# Altium integrated library TI Data Converters Analog to Digital Converter.IntLib: 2197 symbols (part 106 of 168)
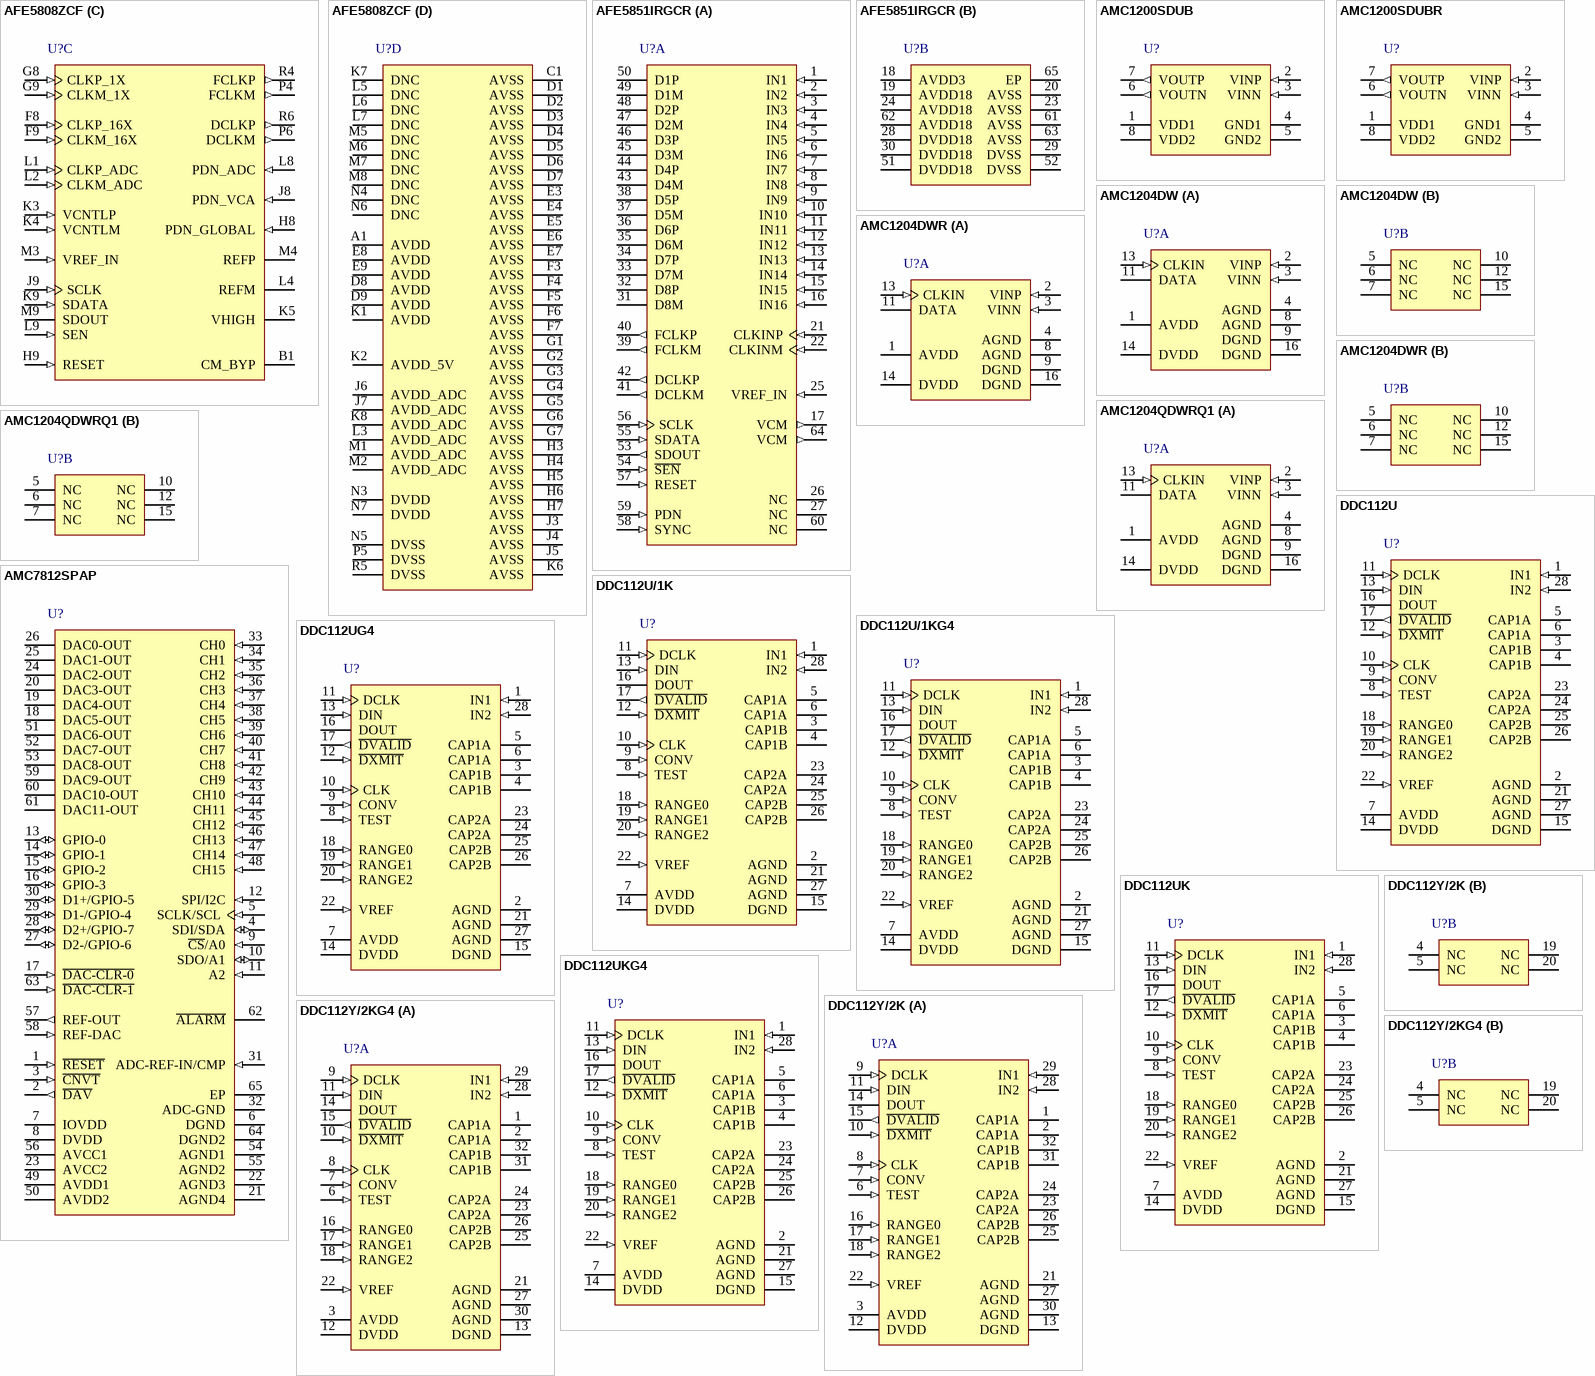
[diagram p231: symbols AFE5808ZCF to DDC112Y/2KG4]

## AMC1204QDWRQ1
designator U?
Automotive Catalog, 1-Bit, 20 MHz, 2nd-Order, Isolated Delta-Sigma Modulator, -40 to 125 degC, 16-pin SOIC (DW16), Green (RoHS & no Sb/Br); Manufacturer: Texas Instruments; PartNumber: AMC1204QDWRQ1; # Input Channels: 1; Analog Voltage AV/DD(Max)(V): 5.5; Analog Voltage AV/DD(Min)(V): 4.5; Architecture: Delta-Sigma, Modulator; Digital Supply(Min)(V): 2.7; INL(Max)(+/-LSB): 16; Interface: Serial; Sample Rate(max)(SPS): 78k; SFDR(dB): 96; SINAD(dB): 87; SNR(dB): 88; SubFamily: Isolated ADC; DatasheetVersion: SLAS886B; PackageVersion: 4040000-2/G, 01/2011; PackageReference: DW16; PackageDescription: 16-Pin Plastic Small Outline, Body 10.30 x 7.50 mm, Pitch 1.27 mm; Supplier 1: Digi-Key; Supplier Part Number 1: ADS800UG4-ND; Supplier 2: Mouser; Supplier Part Number 2: 595-ADS800UG4; Digital Supply(Max)(V): 5.5; Eco-Plan: Green (RoHS & no Sb/Br); Resolution(Bits): 16; Mounting Technology: Surface Mount; Code_JEDEC: MS-013; ComponentLink1Description: Manufacturer URL; ComponentLink1URL: http://www.ti.com/; ComponentLink2Description: Datasheet; ComponentLink2URL: http://www.ti.com/lit/ds/symlink/amc1204-q1.pdf; ComponentLink3Description: Package Specification; ComponentLink3URL: http://www.ti.com/litv/pdf/msoi003g
footprint TI-DW16_N (SOIC, 16-Leads, Body 10.3x7.5mm, Pitch 1.27mm, IPC Medium Density)
footprint TI-DW16_L (SOIC, 16-Leads, Body 10.3x7.5mm, Pitch 1.27mm, IPC High Density)
footprint TI-DW16_M (SOIC, 16-Leads, Body 10.3x7.5mm, Pitch 1.27mm, IPC Low Density)
part A pins: 1 AVDD (power) "High-side power supply", 2 VINP (in) "Noninverting analog input", 3 VINN (in) "Inverting analog input", 4 AGND (power) "High-side ground", 8 AGND (power) "High-side ground", 9 DGND (power) "Controller-side ground", 11 DATA (hiz) "Modulator data output", 13 CLKIN (in) "Modulator clock input", 14 DVDD (power) "Controller-side power supply", 16 DGND (power) "Controller-side ground"
part B pins: 5 NC "No internal connection; can be tied to any potential or left unconnected", 6 NC "No internal connection; can be tied to any potential or left unconnected", 7 NC "No internal connection; can be tied to any potential or left unconnected", 10 NC "No internal connection; can be tied to any potential or left unconnected", 12 NC "No internal connection; can be tied to any potential or left unconnected", 15 NC "No internal connection; can be tied to any potential or left unconnected"

## AMC7812SPAP
designator U?
Integrated, Multichannel ADC and DAC for Analog Monitoring & Control, -40 to 105 degC, 64-pin QFP (PAP64), Green (RoHS & no Sb/Br); Manufacturer: Texas Instruments; PartNumber: AMC7812SPAP; # Input Channels: 16; Analog Voltage AV/DD(Max)(V): 5.5; Analog Voltage AV/DD(Min)(V): 2.7; INL(Max)(+/-LSB): 1; Resolution(Bits): 12; Sample Rate (max)(SPS): 500; SubFamily: Precision ADC (<=10MSPS); DatasheetVersion: SBAS513D; PackageVersion: 4147702/C, 08/2003; PackageReference: PAP64-6495X6495TP; PackageDescription: 64-Pin PowerPAD(TM) Plastic Quad Flatpack, Body 10 x 10 mm, Pitch 0.5 mm; Supplier 1: Digi-Key; Supplier Part Number 1: ADS821U-ND; Supplier 2: Mouser; Supplier Part Number 2: 595-ADS821U; Digital Supply(Max)(V): 5.5; Digital Supply(Min)(V): 2.7; Eco-Plan: Green (RoHS & no Sb/Br); Mounting Technology: Surface Mount; Code_JEDEC: MS-026; ComponentLink1Description: Manufacturer URL; ComponentLink1URL: http://www.ti.com/; ComponentLink2Description: Datasheet; ComponentLink2URL: http://www.ti.com/general/docs/lit/getliterature.tsp?genericPartNumber=AMC7812&fileType=pdf; ComponentLink3Description: Package Specification; ComponentLink3URL: http://www.ti.com/lit/ml/mpqf071b/mpqf071b.pdf
footprint TI-PAP64-6495X6495TP_N (QFP, 64-Leads, Body 10x10mm, Pitch 0.5mm, Thermal Pad 7x7mm, IPC Medium Density)
footprint TI-PAP64-6495X6495TP_L (QFP, 64-Leads, Body 10x10mm, Pitch 0.5mm, Thermal Pad 7x7mm, IPC High Density)
footprint TI-PAP64-6495X6495TP_M (QFP, 64-Leads, Body 10x10mm, Pitch 0.5mm, Thermal Pad 7x7mm, IPC Low Density)
pins: 1 ~{RESET} (in) "Reset input, active low. Logic low on this pin causes the device to perform a hardware reset.", 2 ~{DAV} (out) "Data available indicator, active low output. In direct mode, the D\A\V\ pin goes low (active) when the conversion ends. In auto mode, a 1us pulse (active low) appears on this pin when a conversion cycle finishes (see the (See Datasheet)", 3 ~{CNVT} (in) "External conversion trigger, active low. The falling edge starts the sampling and conversion of the ADC.", 4 SDI/SDA (io) "Serial interface data. SDI for the serial peripheral interface (SPI) when the SPI/I2C pin is high. SDA for I2 C when the SPI/I2C pin is low.", 5 SCLK/SCL (in) "Serial clock input of the main serial interface. SPI clock when the SPI/I2C pin is high; I2C clock when the SPI/I2C pin is low.", 6 DGND (power) "Digital ground", 7 IOVDD (power) "Interface power supply", 8 DVDD (power) "Digital power supply (+3V to +5V). Must be the same value as AVDD.", 9 ~{CS}/A0 (in) "Chip select signal for SPI when the SPI/I2C pin is high. Slave address selection A0 for I2C when the SPI/I2C pin is low.", 10 SDO/A1 (io) "SDO for SPI when the SPI/I2C pin is high. Slave address selection A1 for I2C when the SPI/I2C pin is low.", 11 A2 (in) "Slave address selection A2 for I2C when the SPI/I2C pin is low.", 12 SPI/I2C (in) "Interface selection pin. Digital input. When this pin is tied to IOVDD, the SPI is enabled and the I2C interface is disabled. When this pin is tied to ground, the SPI is disabled and the I2C interface is enabled.", 13 GPIO-0 (io) "General-purpose digital input/output. This pin is a bidirectional open-drain, digital input/output, and requires an external pull-up resistor. See the General Purpose Input/Output Pins section for more details.", 14 GPIO-1 (io) "General-purpose digital input/output. This pin is a bidirectional open-drain, digital input/output, and requires an external pull-up resistor. See the General Purpose Input/Output Pins section for more details.", 15 GPIO-2 (io) "General-purpose digital input/output. This pin is a bidirectional open-drain, digital input/output, and requires an external pull-up resistor. See the General Purpose Input/Output Pins section for more details.", 16 GPIO-3 (io) "General-purpose digital input/output. This pin is a bidirectional open-drain, digital input/output, and requires an external pull-up resistor. See the General Purpose Input/Output Pins section for more details.", 17 ~{DAC-CLR-0} (in) "DAC clear control signal, digital input, active low. When low, all DACs associated with the DAC-CLR-0 pin enter a clear state, the DAC Latch is loaded with predefined code, and the output is set to the corresponding level. (See Datasheet)", 18 DAC5-OUT (hiz) "Output of DAC channels 5", 19 DAC4-OUT (hiz) "Output of DAC channels 4", 20 DAC3-OUT (hiz) "Output of DAC channels 3", 21 AGND4 (power) "Analog ground", 22 AGND3 (power) "Analog ground", 23 AVCC2 (power) "Positive analog power for DAC0-OUT, DAC1-OUT, DAC2-OUT, DAC3-OUT, DAC4-OUT, DAC5-OUT, must be tied to AVCC1", 24 DAC2-OUT (hiz) "Output of DAC channels 2", 25 DAC1-OUT (hiz) "Output of DAC channels 1", 26 DAC0-OUT (hiz) "Output of DAC channels 0", 27 D2-/GPIO-6 (io) "Remote sensor D2 negative input when D2 enabled; GPIO-6 when D2 disabled. Pull-up required for output.", 28 D2+/GPIO-7 (io) "Remote sensor D2 positive input when D2 enabled; GPIO-7 when D2 disabled. Pull-up required for output.", 29 D1-/GPIO-4 (io) "Remote sensor D1 negative input when D1 enabled; GPIO-6 when D1 disabled. Pull-up required for output.", 30 D1+/GPIO-5 (io) "Remote sensor D1 positive input when D1 enabled; GPIO-7 when D1 disabled. Pull-up required for output.", 31 ADC-REF-IN/CMP (in) "External ADC reference input when external VREF is used to drive ADC. Compensation capacitor connection (connect 4.7uF capacitor between this pin and AGND) when Internal VREF is used to drive ADC.", 32 ADC-GND (power) "ADC ground. Must be connected to AGND.", 33 CH0 (in) "Analog inputs of channel 0 to 15. CH4 to CH15 are single-ended. CH0, CH1, CH2, and CH3 can be programmed as differential or single-ended.", 34 CH1 (in) "Analog inputs of channel 0 to 15. CH4 to CH15 are single-ended. CH0, CH1, CH2, and CH3 can be programmed as differential or single-ended.", 35 CH2 (in) "Analog inputs of channel 0 to 15. CH4 to CH15 are single-ended. CH0, CH1, CH2, and CH3 can be programmed as differential or single-ended.", 36 CH3 (in) "Analog inputs of channel 0 to 15. CH4 to CH15 are single-ended. CH0, CH1, CH2, and CH3 can be programmed as differential or single-ended.", 37 CH4 (in) "Analog inputs of channel 0 to 15. CH4 to CH15 are single-ended. CH0, CH1, CH2, and CH3 can be programmed as differential or single-ended.", 38 CH5 (in) "Analog inputs of channel 0 to 15. CH4 to CH15 are single-ended. CH0, CH1, CH2, and CH3 can be programmed as differential or single-ended.", 39 CH6 (in) "Analog inputs of channel 0 to 15. CH4 to CH15 are single-ended. CH0, CH1, CH2, and CH3 can be programmed as differential or single-ended.", 40 CH7 (in) "Analog inputs of channel 0 to 15. CH4 to CH15 are single-ended. CH0, CH1, CH2, and CH3 can be programmed as differential or single-ended.", 41 CH8 (in) "Analog inputs of channel 0 to 15. CH4 to CH15 are single-ended. CH0, CH1, CH2, and CH3 can be programmed as differential or single-ended.", 42 CH9 (in) "Analog inputs of channel 0 to 15. CH4 to CH15 are single-ended. CH0, CH1, CH2, and CH3 can be programmed as differential or single-ended.", 43 CH10 (in) "Analog inputs of channel 0 to 15. CH4 to CH15 are single-ended. CH0, CH1, CH2, and CH3 can be programmed as differential or single-ended.", 44 CH11 (in) "Analog inputs of channel 0 to 15. CH4 to CH15 are single-ended. CH0, CH1, CH2, and CH3 can be programmed as differential or single-ended.", 45 CH12 (in) "Analog inputs of channel 0 to 15. CH4 to CH15 are single-ended. CH0, CH1, CH2, and CH3 can be programmed as differential or single-ended.", 46 CH13 (in) "Analog inputs of channel 0 to 15. CH4 to CH15 are single-ended. CH0, CH1, CH2, and CH3 can be programmed as differential or single-ended.", 47 CH14 (in) "Analog inputs of channel 0 to 15. CH4 to CH15 are single-ended. CH0, CH1, CH2, and CH3 can be programmed as differential or single-ended.", 48 CH15 (in) "Analog inputs of channel 0 to 15. CH4 to CH15 are single-ended. CH0, CH1, CH2, and CH3 can be programmed as differential or single-ended.", 49 AVDD1 (power) "Positive analog power supply", 50 AVDD2 (power) "Positive analog power supply", 51 DAC6-OUT (hiz) "Output of DAC channels 6", 52 DAC7-OUT (hiz) "Output of DAC channels 7", 53 DAC8-OUT (hiz) "Output of DAC channels 8", 54 AGND1 (power) "Analog ground", 55 AGND2 (power) "Analog ground", 56 AVCC1 (power) "Positive analog power for DAC6-OUT, DAC7-OUT, DAC8-OUT, DAC9-OUT, DAC10-OUT, DAC11-OUT, must be tied to AVCC2", 57 REF-OUT (out) "Internal reference output", 58 REF-DAC (in) "DAC reference Input", 59 DAC9-OUT (hiz) "Output of DAC channels 9", 60 DAC10-OUT (hiz) "Output of DAC channels 10", 61 DAC11-OUT (hiz) "Output of DAC channels 11", 62 ~{ALARM} (hiz) "Global alarm. Open drain output. External 10kohm pull-up resistor required. This pin goes low (active) when one (or more) of the analog channels are out of range.", 63 ~{DAC-CLR-1} (in) "DAC clear control signal, digital input, active low. When low, all DACs associated with the DAC-CLR-1 pin enter a clear state, the DAC Latch is loaded with predefined code, and the output is set to the corresponding level. (See Datasheet)", 64 DGND2 (power) "Digital ground", 65 EP

## DDC112U
designator U?
Dual Current Input 20-Bit ADC, -40 to 85 degC, 28-pin SOIC (DW28), Green (RoHS & no Sb/Br); Manufacturer: Texas Instruments; PartNumber: DDC112U; # Input Channels: 2; Analog Voltage AV/DD(Max)(V): 5.25; Analog Voltage AV/DD(Min)(V): 4.75; Architecture: Delta-Sigma; Resolution(Bits): 20; Sample Rate (max)(SPS): 3k; SubFamily: Current Input ADC; DatasheetVersion: SBAS085B; PackageVersion: 4040000-6/G, 01/2011; PackageReference: DW28; PackageDescription: 28-Pin Plastic Small Outline, Body 17.90 x 7.50 mm, Pitch 1.27 mm; Supplier 1: Digi-Key; Supplier Part Number 1: ADS821UG4-ND; Supplier 2: Mouser; Supplier Part Number 2: 595-ADS821UG4; Digital Supply(Max)(V): 5.25; Digital Supply(Min)(V): 4.75; Eco-Plan: Green (RoHS & no Sb/Br); Mounting Technology: Surface Mount; Code_JEDEC: MS-013; ComponentLink1Description: Manufacturer URL; ComponentLink1URL: http://www.ti.com/; ComponentLink2Description: Datasheet; ComponentLink2URL: http://www.ti.com/general/docs/lit/getliterature.tsp?genericPartNumber=DDC112&fileType=pdf; ComponentLink3Description: Package Specification; ComponentLink3URL: http://www.ti.com/lit/ml/mpds175a/mpds175a.pdf
footprint TI-DW28_N (SOIC, 28-Leads, Body 17.9x7.5mm, Pitch 1.27mm, IPC Medium Density)
footprint TI-DW28_L (SOIC, 28-Leads, Body 17.9x7.5mm, Pitch 1.27mm, IPC High Density)
footprint TI-DW28_M (SOIC, 28-Leads, Body 17.9x7.5mm, Pitch 1.27mm, IPC Low Density)
pins: 1 IN1 (in) "Input 1: analog input for Integrators 1A and 1B. The integrator that is active is set by the CONV input.", 2 AGND (power) "Analog Ground", 3 CAP1B "External Capacitor for Integrator 1B", 4 CAP1B "External Capacitor for Integrator 1B", 5 CAP1A "External Capacitor for Integrator 1A", 6 CAP1A "External Capacitor for Integrator 1A", 7 AVDD (power) "Analog Supply, +5V Nominal", 8 TEST (in) "Test Control Input. When HIGH, a test charge is applied to the A or B integrators on the next CONV transition.", 9 CONV (in) "Controls which side of the integrator is connected to input. In continuous mode; CONV HIGH → side A is integrating, CONV LOW → side B is integrating. CONV must be synchronized with CLK (see Figure 2).", 10 CLK (in) "System Clock Input, 10MHz Nominal", 11 DCLK (in) "Serial Data Clock Input. This input operates the serial I/ O shift register.", 12 ~{DXMIT} (in) "Serial Data Transmit Enable Input. When LOW, this input enables the internal serial shift register.", 13 DIN (in) "Serial Digital Input. Used to cascade multiple DDC112s.", 14 DVDD (power) "Digital Supply, +5V Nominal", 15 DGND (power) "Digital Ground", 16 DOUT (hiz) "Serial Data Output, Hi-Z when D\X\M\I\T\ is HIGH", 17 ~{DVALID} (out) "Data Valid Output. A LOW value indicates valid data is available in the serial I/O register.", 18 RANGE0 (in) "Range Control Input 0 (least significant bit)", 19 RANGE1 (in) "Range Control Input 1", 20 RANGE2 (in) "Range Control Input 2 (most significant bit)", 21 AGND (power) "Analog Ground", 22 VREF (in) "External Reference Input, +4.096V Nominal", 23 CAP2A "External Capacitor for Integrator 2A", 24 CAP2A "External Capacitor for Integrator 2A", 25 CAP2B "External Capacitor for Integrator 2B", 26 CAP2B "External Capacitor for Integrator 2B", 27 AGND (power) "Analog Ground", 28 IN2 (in) "Input 2: analog input for Integrators 2A and 2B. The integrator that is active is set by the CONV input."

## DDC112U/1K
designator U?
Dual Current Input 20-Bit ADC, -40 to 85 degC, 28-pin SOIC (DW28), Green (RoHS & no Sb/Br); Manufacturer: Texas Instruments; PartNumber: DDC112U/1K; # Input Channels: 2; Analog Voltage AV/DD(Max)(V): 5.25; Analog Voltage AV/DD(Min)(V): 4.75; Architecture: Delta-Sigma; Resolution(Bits): 20; Sample Rate (max)(SPS): 3k; SubFamily: Current Input ADC; DatasheetVersion: SBAS085B; PackageVersion: 4040000-6/G, 01/2011; PackageReference: DW28; PackageDescription: 28-Pin Plastic Small Outline, Body 17.90 x 7.50 mm, Pitch 1.27 mm; Supplier 1: Digi-Key; Supplier Part Number 1: ADS801U-ND; Supplier 2: Newark; Supplier Part Number 2: 35C1570; Supplier 3: Mouser; Supplier Part Number 3: 595-ADS801U; Digital Supply(Max)(V): 5.25; Digital Supply(Min)(V): 4.75; Eco-Plan: Green (RoHS & no Sb/Br); Mounting Technology: Surface Mount; Code_JEDEC: MS-013; ComponentLink1Description: Manufacturer URL; ComponentLink1URL: http://www.ti.com/; ComponentLink2Description: Datasheet; ComponentLink2URL: http://www.ti.com/general/docs/lit/getliterature.tsp?genericPartNumber=DDC112&fileType=pdf; ComponentLink3Description: Package Specification; ComponentLink3URL: http://www.ti.com/lit/ml/mpds175a/mpds175a.pdf
footprint TI-DW28_N (SOIC, 28-Leads, Body 17.9x7.5mm, Pitch 1.27mm, IPC Medium Density)
footprint TI-DW28_L (SOIC, 28-Leads, Body 17.9x7.5mm, Pitch 1.27mm, IPC High Density)
footprint TI-DW28_M (SOIC, 28-Leads, Body 17.9x7.5mm, Pitch 1.27mm, IPC Low Density)
pins: 1 IN1 (in) "Input 1: analog input for Integrators 1A and 1B. The integrator that is active is set by the CONV input.", 2 AGND (power) "Analog Ground", 3 CAP1B "External Capacitor for Integrator 1B", 4 CAP1B "External Capacitor for Integrator 1B", 5 CAP1A "External Capacitor for Integrator 1A", 6 CAP1A "External Capacitor for Integrator 1A", 7 AVDD (power) "Analog Supply, +5V Nominal", 8 TEST (in) "Test Control Input. When HIGH, a test charge is applied to the A or B integrators on the next CONV transition.", 9 CONV (in) "Controls which side of the integrator is connected to input. In continuous mode; CONV HIGH → side A is integrating, CONV LOW → side B is integrating. CONV must be synchronized with CLK (see Figure 2).", 10 CLK (in) "System Clock Input, 10MHz Nominal", 11 DCLK (in) "Serial Data Clock Input. This input operates the serial I/ O shift register.", 12 ~{DXMIT} (in) "Serial Data Transmit Enable Input. When LOW, this input enables the internal serial shift register.", 13 DIN (in) "Serial Digital Input. Used to cascade multiple DDC112s.", 14 DVDD (power) "Digital Supply, +5V Nominal", 15 DGND (power) "Digital Ground", 16 DOUT (hiz) "Serial Data Output, Hi-Z when D\X\M\I\T\ is HIGH", 17 ~{DVALID} (out) "Data Valid Output. A LOW value indicates valid data is available in the serial I/O register.", 18 RANGE0 (in) "Range Control Input 0 (least significant bit)", 19 RANGE1 (in) "Range Control Input 1", 20 RANGE2 (in) "Range Control Input 2 (most significant bit)", 21 AGND (power) "Analog Ground", 22 VREF (in) "External Reference Input, +4.096V Nominal", 23 CAP2A "External Capacitor for Integrator 2A", 24 CAP2A "External Capacitor for Integrator 2A", 25 CAP2B "External Capacitor for Integrator 2B", 26 CAP2B "External Capacitor for Integrator 2B", 27 AGND (power) "Analog Ground", 28 IN2 (in) "Input 2: analog input for Integrators 2A and 2B. The integrator that is active is set by the CONV input."

## DDC112U/1KG4
designator U?
Dual Current Input 20-Bit ADC, -40 to 85 degC, 28-pin SOIC (DW28), Green (RoHS & no Sb/Br); Manufacturer: Texas Instruments; PartNumber: DDC112U/1KG4; # Input Channels: 2; Analog Voltage AV/DD(Max)(V): 5.25; Analog Voltage AV/DD(Min)(V): 4.75; Architecture: Delta-Sigma; Resolution(Bits): 20; Sample Rate (max)(SPS): 3k; SubFamily: Current Input ADC; DatasheetVersion: SBAS085B; PackageVersion: 4040000-6/G, 01/2011; PackageReference: DW28; PackageDescription: 28-Pin Plastic Small Outline, Body 17.90 x 7.50 mm, Pitch 1.27 mm; Supplier 1: Digi-Key; Supplier Part Number 1: ADS801UG4-ND; Supplier 2: Farnell; Supplier Part Number 2: 1234977; Supplier 3: Mouser; Supplier Part Number 3: 595-ADS801UG4; Digital Supply(Max)(V): 5.25; Digital Supply(Min)(V): 4.75; Eco-Plan: Green (RoHS & no Sb/Br); Mounting Technology: Surface Mount; Code_JEDEC: MS-013; ComponentLink1Description: Manufacturer URL; ComponentLink1URL: http://www.ti.com/; ComponentLink2Description: Datasheet; ComponentLink2URL: http://www.ti.com/general/docs/lit/getliterature.tsp?genericPartNumber=DDC112&fileType=pdf; ComponentLink3Description: Package Specification; ComponentLink3URL: http://www.ti.com/lit/ml/mpds175a/mpds175a.pdf
footprint TI-DW28_N (SOIC, 28-Leads, Body 17.9x7.5mm, Pitch 1.27mm, IPC Medium Density)
footprint TI-DW28_L (SOIC, 28-Leads, Body 17.9x7.5mm, Pitch 1.27mm, IPC High Density)
footprint TI-DW28_M (SOIC, 28-Leads, Body 17.9x7.5mm, Pitch 1.27mm, IPC Low Density)
pins: 1 IN1 (in) "Input 1: analog input for Integrators 1A and 1B. The integrator that is active is set by the CONV input.", 2 AGND (power) "Analog Ground", 3 CAP1B "External Capacitor for Integrator 1B", 4 CAP1B "External Capacitor for Integrator 1B", 5 CAP1A "External Capacitor for Integrator 1A", 6 CAP1A "External Capacitor for Integrator 1A", 7 AVDD (power) "Analog Supply, +5V Nominal", 8 TEST (in) "Test Control Input. When HIGH, a test charge is applied to the A or B integrators on the next CONV transition.", 9 CONV (in) "Controls which side of the integrator is connected to input. In continuous mode; CONV HIGH → side A is integrating, CONV LOW → side B is integrating. CONV must be synchronized with CLK (see Figure 2).", 10 CLK (in) "System Clock Input, 10MHz Nominal", 11 DCLK (in) "Serial Data Clock Input. This input operates the serial I/ O shift register.", 12 ~{DXMIT} (in) "Serial Data Transmit Enable Input. When LOW, this input enables the internal serial shift register.", 13 DIN (in) "Serial Digital Input. Used to cascade multiple DDC112s.", 14 DVDD (power) "Digital Supply, +5V Nominal", 15 DGND (power) "Digital Ground", 16 DOUT (hiz) "Serial Data Output, Hi-Z when D\X\M\I\T\ is HIGH", 17 ~{DVALID} (out) "Data Valid Output. A LOW value indicates valid data is available in the serial I/O register.", 18 RANGE0 (in) "Range Control Input 0 (least significant bit)", 19 RANGE1 (in) "Range Control Input 1", 20 RANGE2 (in) "Range Control Input 2 (most significant bit)", 21 AGND (power) "Analog Ground", 22 VREF (in) "External Reference Input, +4.096V Nominal", 23 CAP2A "External Capacitor for Integrator 2A", 24 CAP2A "External Capacitor for Integrator 2A", 25 CAP2B "External Capacitor for Integrator 2B", 26 CAP2B "External Capacitor for Integrator 2B", 27 AGND (power) "Analog Ground", 28 IN2 (in) "Input 2: analog input for Integrators 2A and 2B. The integrator that is active is set by the CONV input."

## DDC112UG4
designator U?
Dual Current Input 20-Bit ADC, -40 to 85 degC, 28-pin SOIC (DW28), Green (RoHS & no Sb/Br); Manufacturer: Texas Instruments; PartNumber: DDC112UG4; # Input Channels: 2; Analog Voltage AV/DD(Max)(V): 5.25; Analog Voltage AV/DD(Min)(V): 4.75; Architecture: Delta-Sigma; Resolution(Bits): 20; Sample Rate (max)(SPS): 3k; SubFamily: Current Input ADC; DatasheetVersion: SBAS085B; PackageVersion: 4040000-6/G, 01/2011; PackageReference: DW28; PackageDescription: 28-Pin Plastic Small Outline, Body 17.90 x 7.50 mm, Pitch 1.27 mm; Supplier 1: Digi-Key; Supplier Part Number 1: ADS820U-ND; Supplier 2: Newark; Supplier Part Number 2: 74C7210; Supplier 3: Mouser; Supplier Part Number 3: 595-ADS820U; Digital Supply(Max)(V): 5.25; Digital Supply(Min)(V): 4.75; Eco-Plan: Green (RoHS & no Sb/Br); Mounting Technology: Surface Mount; Code_JEDEC: MS-013; ComponentLink1Description: Manufacturer URL; ComponentLink1URL: http://www.ti.com/; ComponentLink2Description: Datasheet; ComponentLink2URL: http://www.ti.com/general/docs/lit/getliterature.tsp?genericPartNumber=DDC112&fileType=pdf; ComponentLink3Description: Package Specification; ComponentLink3URL: http://www.ti.com/lit/ml/mpds175a/mpds175a.pdf
footprint TI-DW28_N (SOIC, 28-Leads, Body 17.9x7.5mm, Pitch 1.27mm, IPC Medium Density)
footprint TI-DW28_L (SOIC, 28-Leads, Body 17.9x7.5mm, Pitch 1.27mm, IPC High Density)
footprint TI-DW28_M (SOIC, 28-Leads, Body 17.9x7.5mm, Pitch 1.27mm, IPC Low Density)
pins: 1 IN1 (in) "Input 1: analog input for Integrators 1A and 1B. The integrator that is active is set by the CONV input.", 2 AGND (power) "Analog Ground", 3 CAP1B "External Capacitor for Integrator 1B", 4 CAP1B "External Capacitor for Integrator 1B", 5 CAP1A "External Capacitor for Integrator 1A", 6 CAP1A "External Capacitor for Integrator 1A", 7 AVDD (power) "Analog Supply, +5V Nominal", 8 TEST (in) "Test Control Input. When HIGH, a test charge is applied to the A or B integrators on the next CONV transition.", 9 CONV (in) "Controls which side of the integrator is connected to input. In continuous mode; CONV HIGH → side A is integrating, CONV LOW → side B is integrating. CONV must be synchronized with CLK (see Figure 2).", 10 CLK (in) "System Clock Input, 10MHz Nominal", 11 DCLK (in) "Serial Data Clock Input. This input operates the serial I/ O shift register.", 12 ~{DXMIT} (in) "Serial Data Transmit Enable Input. When LOW, this input enables the internal serial shift register.", 13 DIN (in) "Serial Digital Input. Used to cascade multiple DDC112s.", 14 DVDD (power) "Digital Supply, +5V Nominal", 15 DGND (power) "Digital Ground", 16 DOUT (hiz) "Serial Data Output, Hi-Z when D\X\M\I\T\ is HIGH", 17 ~{DVALID} (out) "Data Valid Output. A LOW value indicates valid data is available in the serial I/O register.", 18 RANGE0 (in) "Range Control Input 0 (least significant bit)", 19 RANGE1 (in) "Range Control Input 1", 20 RANGE2 (in) "Range Control Input 2 (most significant bit)", 21 AGND (power) "Analog Ground", 22 VREF (in) "External Reference Input, +4.096V Nominal", 23 CAP2A "External Capacitor for Integrator 2A", 24 CAP2A "External Capacitor for Integrator 2A", 25 CAP2B "External Capacitor for Integrator 2B", 26 CAP2B "External Capacitor for Integrator 2B", 27 AGND (power) "Analog Ground", 28 IN2 (in) "Input 2: analog input for Integrators 2A and 2B. The integrator that is active is set by the CONV input."

## DDC112UK
designator U?
Dual Current Input 20-Bit ADC, 0 to 70 degC, 28-pin SOIC (DW28), Green (RoHS & no Sb/Br); Manufacturer: Texas Instruments; PartNumber: DDC112UK; # Input Channels: 2; Analog Voltage AV/DD(Max)(V): 5.25; Analog Voltage AV/DD(Min)(V): 4.75; Architecture: Delta-Sigma; Resolution(Bits): 20; Sample Rate (max)(SPS): 3k; SubFamily: Current Input ADC; DatasheetVersion: SBAS085B; PackageVersion: 4040000-6/G, 01/2011; PackageReference: DW28; PackageDescription: 28-Pin Plastic Small Outline, Body 17.90 x 7.50 mm, Pitch 1.27 mm; Supplier 1: Farnell; Supplier Part Number 1: 1214452; Supplier 2: Mouser; Supplier Part Number 2: 595-ADS820UG4; Digital Supply(Max)(V): 5.25; Digital Supply(Min)(V): 4.75; Eco-Plan: Green (RoHS & no Sb/Br); Mounting Technology: Surface Mount; Code_JEDEC: MS-013; ComponentLink1Description: Manufacturer URL; ComponentLink1URL: http://www.ti.com/; ComponentLink2Description: Datasheet; ComponentLink2URL: http://www.ti.com/general/docs/lit/getliterature.tsp?genericPartNumber=DDC112&fileType=pdf; ComponentLink3Description: Package Specification; ComponentLink3URL: http://www.ti.com/lit/ml/mpds175a/mpds175a.pdf
footprint TI-DW28_N (SOIC, 28-Leads, Body 17.9x7.5mm, Pitch 1.27mm, IPC Medium Density)
footprint TI-DW28_L (SOIC, 28-Leads, Body 17.9x7.5mm, Pitch 1.27mm, IPC High Density)
footprint TI-DW28_M (SOIC, 28-Leads, Body 17.9x7.5mm, Pitch 1.27mm, IPC Low Density)
pins: 1 IN1 (in) "Input 1: analog input for Integrators 1A and 1B. The integrator that is active is set by the CONV input.", 2 AGND (power) "Analog Ground", 3 CAP1B "External Capacitor for Integrator 1B", 4 CAP1B "External Capacitor for Integrator 1B", 5 CAP1A "External Capacitor for Integrator 1A", 6 CAP1A "External Capacitor for Integrator 1A", 7 AVDD (power) "Analog Supply, +5V Nominal", 8 TEST (in) "Test Control Input. When HIGH, a test charge is applied to the A or B integrators on the next CONV transition.", 9 CONV (in) "Controls which side of the integrator is connected to input. In continuous mode; CONV HIGH → side A is integrating, CONV LOW → side B is integrating. CONV must be synchronized with CLK (see Figure 2).", 10 CLK (in) "System Clock Input, 10MHz Nominal", 11 DCLK (in) "Serial Data Clock Input. This input operates the serial I/ O shift register.", 12 ~{DXMIT} (in) "Serial Data Transmit Enable Input. When LOW, this input enables the internal serial shift register.", 13 DIN (in) "Serial Digital Input. Used to cascade multiple DDC112s.", 14 DVDD (power) "Digital Supply, +5V Nominal", 15 DGND (power) "Digital Ground", 16 DOUT (hiz) "Serial Data Output, Hi-Z when D\X\M\I\T\ is HIGH", 17 ~{DVALID} (out) "Data Valid Output. A LOW value indicates valid data is available in the serial I/O register.", 18 RANGE0 (in) "Range Control Input 0 (least significant bit)", 19 RANGE1 (in) "Range Control Input 1", 20 RANGE2 (in) "Range Control Input 2 (most significant bit)", 21 AGND (power) "Analog Ground", 22 VREF (in) "External Reference Input, +4.096V Nominal", 23 CAP2A "External Capacitor for Integrator 2A", 24 CAP2A "External Capacitor for Integrator 2A", 25 CAP2B "External Capacitor for Integrator 2B", 26 CAP2B "External Capacitor for Integrator 2B", 27 AGND (power) "Analog Ground", 28 IN2 (in) "Input 2: analog input for Integrators 2A and 2B. The integrator that is active is set by the CONV input."

## DDC112UKG4
designator U?
Dual Current Input 20-Bit ADC, 0 to 70 degC, 28-pin SOIC (DW28), Green (RoHS & no Sb/Br); Manufacturer: Texas Instruments; PartNumber: DDC112UKG4; # Input Channels: 2; Analog Voltage AV/DD(Max)(V): 5.25; Analog Voltage AV/DD(Min)(V): 4.75; Architecture: Delta-Sigma; Resolution(Bits): 20; Sample Rate (max)(SPS): 3k; SubFamily: Current Input ADC; DatasheetVersion: SBAS085B; PackageVersion: 4040000-6/G, 01/2011; PackageReference: DW28; PackageDescription: 28-Pin Plastic Small Outline, Body 17.90 x 7.50 mm, Pitch 1.27 mm; Supplier 1: Digi-Key; Supplier Part Number 1: ADS802U-ND; Supplier 2: Farnell; Supplier Part Number 2: 701804; Supplier 3: Mouser; Supplier Part Number 3: 595-ADS802U; Digital Supply(Max)(V): 5.25; Digital Supply(Min)(V): 4.75; Eco-Plan: Green (RoHS & no Sb/Br); Mounting Technology: Surface Mount; Code_JEDEC: MS-013; ComponentLink1Description: Manufacturer URL; ComponentLink1URL: http://www.ti.com/; ComponentLink2Description: Datasheet; ComponentLink2URL: http://www.ti.com/general/docs/lit/getliterature.tsp?genericPartNumber=DDC112&fileType=pdf; ComponentLink3Description: Package Specification; ComponentLink3URL: http://www.ti.com/lit/ml/mpds175a/mpds175a.pdf
footprint TI-DW28_N (SOIC, 28-Leads, Body 17.9x7.5mm, Pitch 1.27mm, IPC Medium Density)
footprint TI-DW28_L (SOIC, 28-Leads, Body 17.9x7.5mm, Pitch 1.27mm, IPC High Density)
footprint TI-DW28_M (SOIC, 28-Leads, Body 17.9x7.5mm, Pitch 1.27mm, IPC Low Density)
pins: 1 IN1 (in) "Input 1: analog input for Integrators 1A and 1B. The integrator that is active is set by the CONV input.", 2 AGND (power) "Analog Ground", 3 CAP1B "External Capacitor for Integrator 1B", 4 CAP1B "External Capacitor for Integrator 1B", 5 CAP1A "External Capacitor for Integrator 1A", 6 CAP1A "External Capacitor for Integrator 1A", 7 AVDD (power) "Analog Supply, +5V Nominal", 8 TEST (in) "Test Control Input. When HIGH, a test charge is applied to the A or B integrators on the next CONV transition.", 9 CONV (in) "Controls which side of the integrator is connected to input. In continuous mode; CONV HIGH → side A is integrating, CONV LOW → side B is integrating. CONV must be synchronized with CLK (see Figure 2).", 10 CLK (in) "System Clock Input, 10MHz Nominal", 11 DCLK (in) "Serial Data Clock Input. This input operates the serial I/ O shift register.", 12 ~{DXMIT} (in) "Serial Data Transmit Enable Input. When LOW, this input enables the internal serial shift register.", 13 DIN (in) "Serial Digital Input. Used to cascade multiple DDC112s.", 14 DVDD (power) "Digital Supply, +5V Nominal", 15 DGND (power) "Digital Ground", 16 DOUT (hiz) "Serial Data Output, Hi-Z when D\X\M\I\T\ is HIGH", 17 ~{DVALID} (out) "Data Valid Output. A LOW value indicates valid data is available in the serial I/O register.", 18 RANGE0 (in) "Range Control Input 0 (least significant bit)", 19 RANGE1 (in) "Range Control Input 1", 20 RANGE2 (in) "Range Control Input 2 (most significant bit)", 21 AGND (power) "Analog Ground", 22 VREF (in) "External Reference Input, +4.096V Nominal", 23 CAP2A "External Capacitor for Integrator 2A", 24 CAP2A "External Capacitor for Integrator 2A", 25 CAP2B "External Capacitor for Integrator 2B", 26 CAP2B "External Capacitor for Integrator 2B", 27 AGND (power) "Analog Ground", 28 IN2 (in) "Input 2: analog input for Integrators 2A and 2B. The integrator that is active is set by the CONV input."

## DDC112Y/2K
designator U?
Dual Current Input 20-Bit ADC, -40 to 85 degC, 32-pin QFP (PJT32), Green (RoHS & no Sb/Br); Manufacturer: Texas Instruments; PartNumber: DDC112Y/2K; # Input Channels: 2; Analog Voltage AV/DD(Max)(V): 5.25; Analog Voltage AV/DD(Min)(V): 4.75; Architecture: Delta-Sigma; Resolution(Bits): 20; Sample Rate (max)(SPS): 3k; SubFamily: Current Input ADC; DatasheetVersion: SBAS085B; PackageVersion: 4203540/A, 11/2001; PackageReference: PJT32; PackageDescription: 32-Pin Plastic Quad Flatpack, Body 7 x 7 mm, Pitch 0.8 mm; Supplier 1: Digi-Key; Supplier Part Number 1: ADS802UG4-ND; Supplier 2: Mouser; Supplier Part Number 2: 595-ADS802UG4; Digital Supply(Max)(V): 5.25; Digital Supply(Min)(V): 4.75; Eco-Plan: Green (RoHS & no Sb/Br); Mounting Technology: Surface Mount; Code_JEDEC: MS-026; ComponentLink1Description: Manufacturer URL; ComponentLink1URL: http://www.ti.com/; ComponentLink2Description: Datasheet; ComponentLink2URL: http://www.ti.com/general/docs/lit/getliterature.tsp?genericPartNumber=DDC112&fileType=pdf; ComponentLink3Description: Package Specification; ComponentLink3URL: http://www.ti.com/litv/pdf/mpqf112
footprint TI-PJT32_N (QFP, 32-Leads, Body 7x7mm, Pitch 0.8mm, IPC Medium Density)
footprint TI-PJT32_L (QFP, 32-Leads, Body 7x7mm, Pitch 0.8mm, IPC High Density)
footprint TI-PJT32_M (QFP, 32-Leads, Body 7x7mm, Pitch 0.8mm, IPC Low Density)
part A pins: 1 CAP1A "External Capacitor for Integrator 1A", 2 CAP1A "External Capacitor for Integrator 1A", 3 AVDD (power) "Analog Supply, +5V Nominal", 6 TEST (in) "Test Control Input. When HIGH, a test charge is applied to the A or B integrators on the next CONV transition.", 7 CONV (in) "Controls which side of the integrator is connected to input. In continuous mode; CONV HIGH side A is integrating, CONV LOW side B is integrating CONV must be synchronized with CLK (see text).", 8 CLK (in) "System Clock Input, 10MHz Nominal", 9 DCLK (in) "Serial Data Clock Input. This input operates the serial I/O shift register.", 10 ~{DXMIT} (in) "Serial Data Transmit Enable Input. When LOW, this input enables the internal serial shift register.", 11 DIN (in) "Serial Digital Input. Used to cascade multiple DDC112s.", 12 DVDD (power) "Digital Supply, +5V Nominal", 13 DGND (power) "Digital Ground", 14 DOUT (hiz) "Serial Data Output, Hi-Z when D\X\M\I\T\ is HIGH", 15 ~{DVALID} (out) "Data Valid Output. A LOW value indicates valid data is available in the serial I/O register.", 16 RANGE0 (in) "Range Control Input 0 (least significant bit)", 17 RANGE1 (in) "Range Control Input 1", 18 RANGE2 (in) "Range Control Input 2. (most significant bit)", 21 AGND (power) "Analog Ground", 22 VREF (in) "External Reference Input, +4.096V Nominal", 23 CAP2A "External Capacitor for Integrator 2A", 24 CAP2A "External Capacitor for Integrator 2A", 25 CAP2B "External Capacitor for Integrator 2B", 26 CAP2B "External Capacitor for Integrator 2B", 27 AGND (power) "Analog Ground", 28 IN2 (in) "Input 2: analog input for Integrators 2A and 2B. The integrator that is active is set by the CONV input.", 29 IN1 (in) "Input 1: analog input for Integrators 1A and 1B. The integrator that is active is set by the CONV input.", 30 AGND (power) "Analog Ground", 31 CAP1B "External Capacitor for Integrator 1B", 32 CAP1B "External Capacitor for Integrator 1B"
part B pins: 4 NC "No Connection", 5 NC "No Connection", 19 NC "No Connection", 20 NC "No Connection"

## DDC112Y/2KG4
designator U?
Dual Current Input 20-Bit ADC, -40 to 85 degC, 32-pin QFP (PJT32), Green (RoHS & no Sb/Br); Manufacturer: Texas Instruments; PartNumber: DDC112Y/2KG4; # Input Channels: 2; Analog Voltage AV/DD(Max)(V): 5.25; Analog Voltage AV/DD(Min)(V): 4.75; Architecture: Delta-Sigma; Resolution(Bits): 20; Sample Rate (max)(SPS): 3k; SubFamily: Current Input ADC; DatasheetVersion: SBAS085B; PackageVersion: 4203540/A, 11/2001; PackageReference: PJT32; PackageDescription: 32-Pin Plastic Quad Flatpack, Body 7 x 7 mm, Pitch 0.8 mm; Supplier 1: Digi-Key; Supplier Part Number 1: ADS774JP-ND; Supplier 2: Mouser; Supplier Part Number 2: 595-ADS774JP; Digital Supply(Max)(V): 5.25; Digital Supply(Min)(V): 4.75; Eco-Plan: Green (RoHS & no Sb/Br); Mounting Technology: Surface Mount; Code_JEDEC: MS-026; ComponentLink1Description: Manufacturer URL; ComponentLink1URL: http://www.ti.com/; ComponentLink2Description: Datasheet; ComponentLink2URL: http://www.ti.com/general/docs/lit/getliterature.tsp?genericPartNumber=DDC112&fileType=pdf; ComponentLink3Description: Package Specification; ComponentLink3URL: http://www.ti.com/litv/pdf/mpqf112
footprint TI-PJT32_N (QFP, 32-Leads, Body 7x7mm, Pitch 0.8mm, IPC Medium Density)
footprint TI-PJT32_L (QFP, 32-Leads, Body 7x7mm, Pitch 0.8mm, IPC High Density)
footprint TI-PJT32_M (QFP, 32-Leads, Body 7x7mm, Pitch 0.8mm, IPC Low Density)
part A pins: 1 CAP1A "External Capacitor for Integrator 1A", 2 CAP1A "External Capacitor for Integrator 1A", 3 AVDD (power) "Analog Supply, +5V Nominal", 6 TEST (in) "Test Control Input. When HIGH, a test charge is applied to the A or B integrators on the next CONV transition.", 7 CONV (in) "Controls which side of the integrator is connected to input. In continuous mode; CONV HIGH side A is integrating, CONV LOW side B is integrating CONV must be synchronized with CLK (see text).", 8 CLK (in) "System Clock Input, 10MHz Nominal", 9 DCLK (in) "Serial Data Clock Input. This input operates the serial I/O shift register.", 10 ~{DXMIT} (in) "Serial Data Transmit Enable Input. When LOW, this input enables the internal serial shift register.", 11 DIN (in) "Serial Digital Input. Used to cascade multiple DDC112s.", 12 DVDD (power) "Digital Supply, +5V Nominal", 13 DGND (power) "Digital Ground", 14 DOUT (hiz) "Serial Data Output, Hi-Z when D\X\M\I\T\ is HIGH", 15 ~{DVALID} (out) "Data Valid Output. A LOW value indicates valid data is available in the serial I/O register.", 16 RANGE0 (in) "Range Control Input 0 (least significant bit)", 17 RANGE1 (in) "Range Control Input 1", 18 RANGE2 (in) "Range Control Input 2. (most significant bit)", 21 AGND (power) "Analog Ground", 22 VREF (in) "External Reference Input, +4.096V Nominal", 23 CAP2A "External Capacitor for Integrator 2A", 24 CAP2A "External Capacitor for Integrator 2A", 25 CAP2B "External Capacitor for Integrator 2B", 26 CAP2B "External Capacitor for Integrator 2B", 27 AGND (power) "Analog Ground", 28 IN2 (in) "Input 2: analog input for Integrators 2A and 2B. The integrator that is active is set by the CONV input.", 29 IN1 (in) "Input 1: analog input for Integrators 1A and 1B. The integrator that is active is set by the CONV input.", 30 AGND (power) "Analog Ground", 31 CAP1B "External Capacitor for Integrator 1B", 32 CAP1B "External Capacitor for Integrator 1B"
part B pins: 4 NC "No Connection", 5 NC "No Connection", 19 NC "No Connection", 20 NC "No Connection"

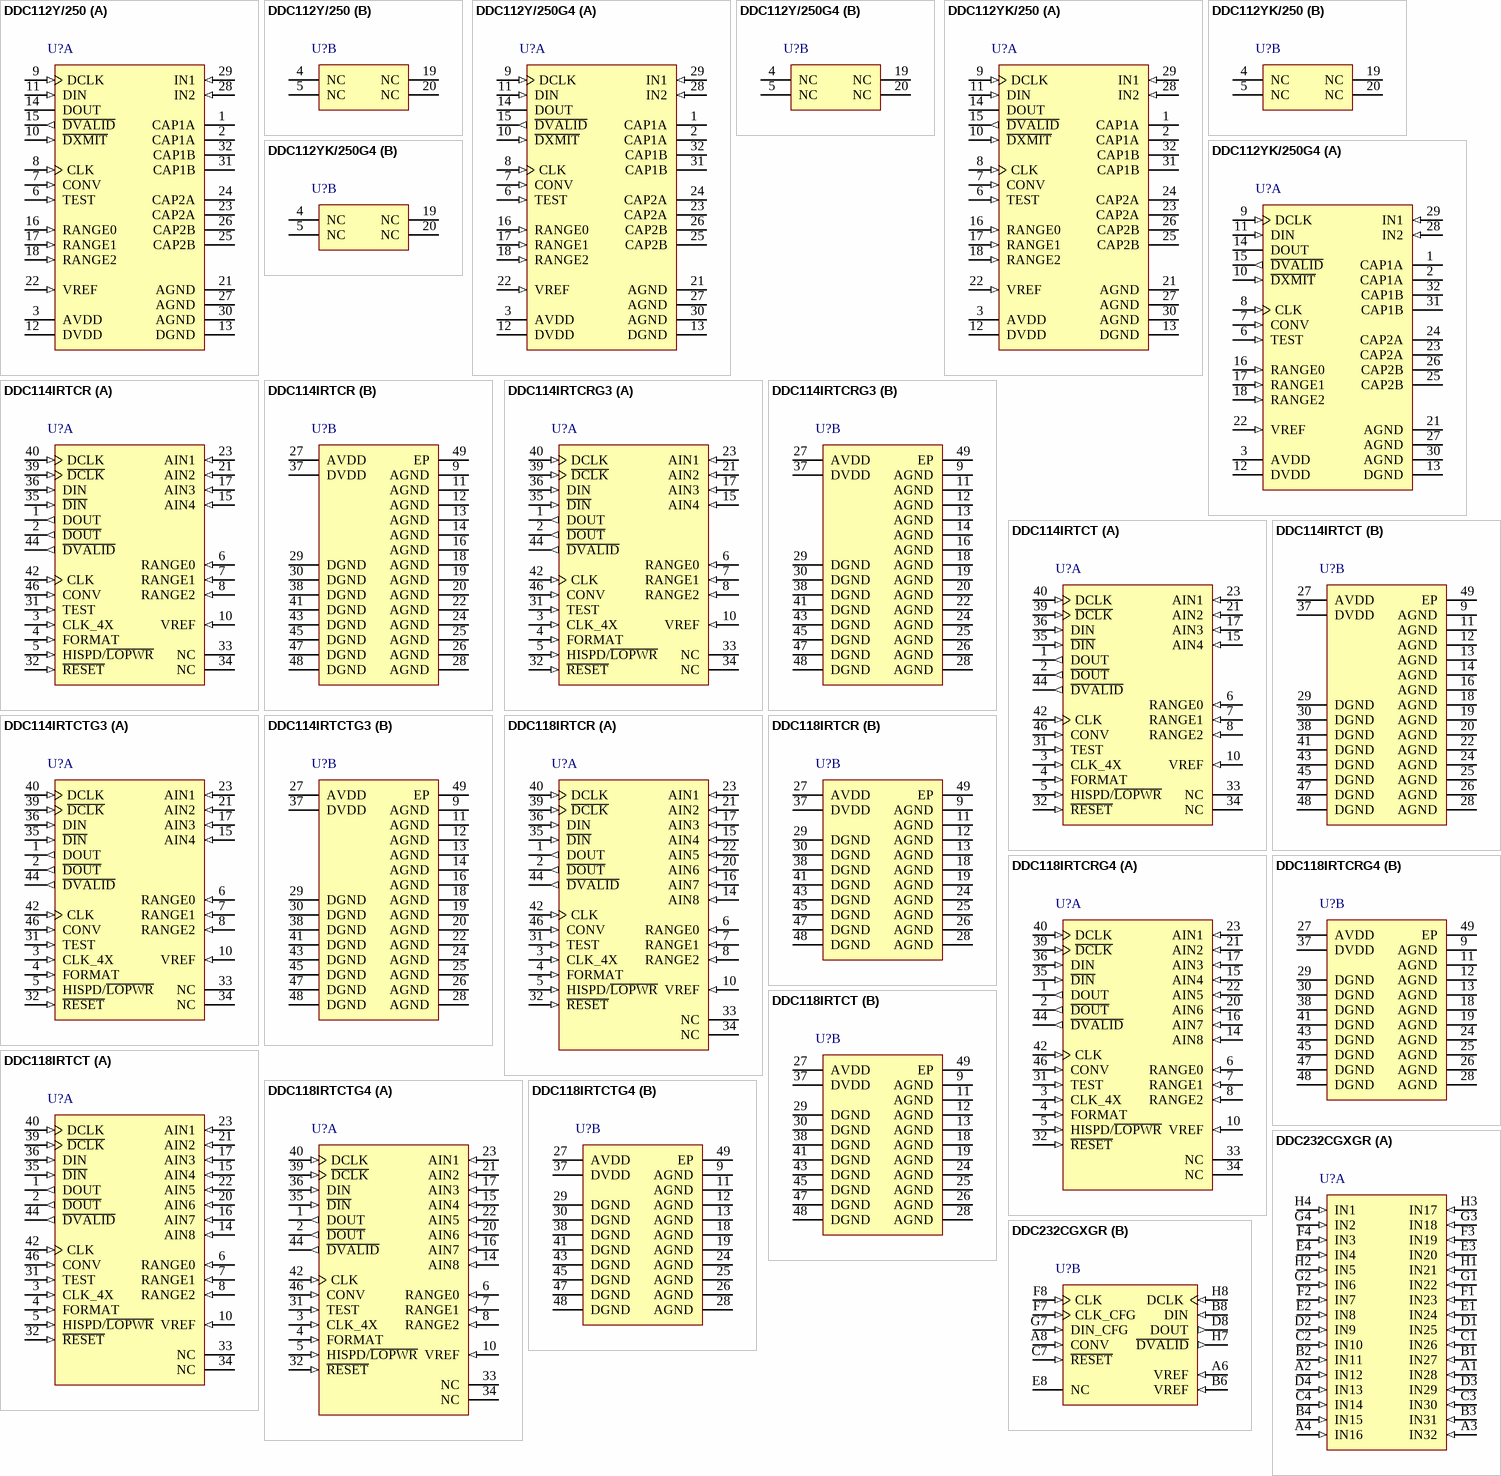
[diagram p90: symbols DDC112Y/250 to DDC232CGXGR]

## DDC112Y/250
designator U?
Dual Current Input 20-Bit ADC, -40 to 85 degC, 32-pin QFP (PJT32), Green (RoHS & no Sb/Br); Manufacturer: Texas Instruments; PartNumber: DDC112Y/250; # Input Channels: 2; Analog Voltage AV/DD(Max)(V): 5.25; Analog Voltage AV/DD(Min)(V): 4.75; Architecture: Delta-Sigma; Resolution(Bits): 20; Sample Rate (max)(SPS): 3k; SubFamily: Current Input ADC; DatasheetVersion: SBAS085B; PackageVersion: 4203540/A, 11/2001; PackageReference: PJT32; PackageDescription: 32-Pin Plastic Quad Flatpack, Body 7 x 7 mm, Pitch 0.8 mm; Supplier 1: Digi-Key; Supplier Part Number 1: ADS774JPG4-ND; Supplier 2: Mouser; Supplier Part Number 2: 595-ADS774JPG4; Digital Supply(Max)(V): 5.25; Digital Supply(Min)(V): 4.75; Eco-Plan: Green (RoHS & no Sb/Br); Mounting Technology: Surface Mount; Code_JEDEC: MS-026; ComponentLink1Description: Manufacturer URL; ComponentLink1URL: http://www.ti.com/; ComponentLink2Description: Datasheet; ComponentLink2URL: http://www.ti.com/general/docs/lit/getliterature.tsp?genericPartNumber=DDC112&fileType=pdf; ComponentLink3Description: Package Specification; ComponentLink3URL: http://www.ti.com/litv/pdf/mpqf112
footprint TI-PJT32_N (QFP, 32-Leads, Body 7x7mm, Pitch 0.8mm, IPC Medium Density)
footprint TI-PJT32_L (QFP, 32-Leads, Body 7x7mm, Pitch 0.8mm, IPC High Density)
footprint TI-PJT32_M (QFP, 32-Leads, Body 7x7mm, Pitch 0.8mm, IPC Low Density)
part A pins: 1 CAP1A "External Capacitor for Integrator 1A", 2 CAP1A "External Capacitor for Integrator 1A", 3 AVDD (power) "Analog Supply, +5V Nominal", 6 TEST (in) "Test Control Input. When HIGH, a test charge is applied to the A or B integrators on the next CONV transition.", 7 CONV (in) "Controls which side of the integrator is connected to input. In continuous mode; CONV HIGH side A is integrating, CONV LOW side B is integrating CONV must be synchronized with CLK (see text).", 8 CLK (in) "System Clock Input, 10MHz Nominal", 9 DCLK (in) "Serial Data Clock Input. This input operates the serial I/O shift register.", 10 ~{DXMIT} (in) "Serial Data Transmit Enable Input. When LOW, this input enables the internal serial shift register.", 11 DIN (in) "Serial Digital Input. Used to cascade multiple DDC112s.", 12 DVDD (power) "Digital Supply, +5V Nominal", 13 DGND (power) "Digital Ground", 14 DOUT (hiz) "Serial Data Output, Hi-Z when D\X\M\I\T\ is HIGH", 15 ~{DVALID} (out) "Data Valid Output. A LOW value indicates valid data is available in the serial I/O register.", 16 RANGE0 (in) "Range Control Input 0 (least significant bit)", 17 RANGE1 (in) "Range Control Input 1", 18 RANGE2 (in) "Range Control Input 2. (most significant bit)", 21 AGND (power) "Analog Ground", 22 VREF (in) "External Reference Input, +4.096V Nominal", 23 CAP2A "External Capacitor for Integrator 2A", 24 CAP2A "External Capacitor for Integrator 2A", 25 CAP2B "External Capacitor for Integrator 2B", 26 CAP2B "External Capacitor for Integrator 2B", 27 AGND (power) "Analog Ground", 28 IN2 (in) "Input 2: analog input for Integrators 2A and 2B. The integrator that is active is set by the CONV input.", 29 IN1 (in) "Input 1: analog input for Integrators 1A and 1B. The integrator that is active is set by the CONV input.", 30 AGND (power) "Analog Ground", 31 CAP1B "External Capacitor for Integrator 1B", 32 CAP1B "External Capacitor for Integrator 1B"
part B pins: 4 NC "No Connection", 5 NC "No Connection", 19 NC "No Connection", 20 NC "No Connection"

## DDC112Y/250G4
designator U?
Dual Current Input 20-Bit ADC, -40 to 85 degC, 32-pin QFP (PJT32), Green (RoHS & no Sb/Br); Manufacturer: Texas Instruments; PartNumber: DDC112Y/250G4; # Input Channels: 2; Analog Voltage AV/DD(Max)(V): 5.25; Analog Voltage AV/DD(Min)(V): 4.75; Architecture: Delta-Sigma; Resolution(Bits): 20; Sample Rate (max)(SPS): 3k; SubFamily: Current Input ADC; DatasheetVersion: SBAS085B; PackageVersion: 4203540/A, 11/2001; PackageReference: PJT32; PackageDescription: 32-Pin Plastic Quad Flatpack, Body 7 x 7 mm, Pitch 0.8 mm; Supplier 1: Digi-Key; Supplier Part Number 1: ADS774JU-ND; Supplier 2: Farnell; Supplier Part Number 2: 1287417; Supplier 3: Newark; Supplier Part Number 3: 25M7542; Supplier 4: Newark; Supplier Part Number 4: 74C7053; Supplier 5: Mouser; Supplier Part Number 5: 595-ADS774JU; Digital Supply(Max)(V): 5.25; Digital Supply(Min)(V): 4.75; Eco-Plan: Green (RoHS & no Sb/Br); Mounting Technology: Surface Mount; Code_JEDEC: MS-026; ComponentLink1Description: Manufacturer URL; ComponentLink1URL: http://www.ti.com/; ComponentLink2Description: Datasheet; ComponentLink2URL: http://www.ti.com/general/docs/lit/getliterature.tsp?genericPartNumber=DDC112&fileType=pdf; ComponentLink3Description: Package Specification; ComponentLink3URL: http://www.ti.com/litv/pdf/mpqf112
footprint TI-PJT32_N (QFP, 32-Leads, Body 7x7mm, Pitch 0.8mm, IPC Medium Density)
footprint TI-PJT32_L (QFP, 32-Leads, Body 7x7mm, Pitch 0.8mm, IPC High Density)
footprint TI-PJT32_M (QFP, 32-Leads, Body 7x7mm, Pitch 0.8mm, IPC Low Density)
part A pins: 1 CAP1A "External Capacitor for Integrator 1A", 2 CAP1A "External Capacitor for Integrator 1A", 3 AVDD (power) "Analog Supply, +5V Nominal", 6 TEST (in) "Test Control Input. When HIGH, a test charge is applied to the A or B integrators on the next CONV transition.", 7 CONV (in) "Controls which side of the integrator is connected to input. In continuous mode; CONV HIGH side A is integrating, CONV LOW side B is integrating CONV must be synchronized with CLK (see text).", 8 CLK (in) "System Clock Input, 10MHz Nominal", 9 DCLK (in) "Serial Data Clock Input. This input operates the serial I/O shift register.", 10 ~{DXMIT} (in) "Serial Data Transmit Enable Input. When LOW, this input enables the internal serial shift register.", 11 DIN (in) "Serial Digital Input. Used to cascade multiple DDC112s.", 12 DVDD (power) "Digital Supply, +5V Nominal", 13 DGND (power) "Digital Ground", 14 DOUT (hiz) "Serial Data Output, Hi-Z when D\X\M\I\T\ is HIGH", 15 ~{DVALID} (out) "Data Valid Output. A LOW value indicates valid data is available in the serial I/O register.", 16 RANGE0 (in) "Range Control Input 0 (least significant bit)", 17 RANGE1 (in) "Range Control Input 1", 18 RANGE2 (in) "Range Control Input 2. (most significant bit)", 21 AGND (power) "Analog Ground", 22 VREF (in) "External Reference Input, +4.096V Nominal", 23 CAP2A "External Capacitor for Integrator 2A", 24 CAP2A "External Capacitor for Integrator 2A", 25 CAP2B "External Capacitor for Integrator 2B", 26 CAP2B "External Capacitor for Integrator 2B", 27 AGND (power) "Analog Ground", 28 IN2 (in) "Input 2: analog input for Integrators 2A and 2B. The integrator that is active is set by the CONV input.", 29 IN1 (in) "Input 1: analog input for Integrators 1A and 1B. The integrator that is active is set by the CONV input.", 30 AGND (power) "Analog Ground", 31 CAP1B "External Capacitor for Integrator 1B", 32 CAP1B "External Capacitor for Integrator 1B"
part B pins: 4 NC "No Connection", 5 NC "No Connection", 19 NC "No Connection", 20 NC "No Connection"

## DDC112YK/250
designator U?
Dual Current Input 20-Bit ADC, 0 to 70 degC, 32-pin QFP (PJT32), Green (RoHS & no Sb/Br); Manufacturer: Texas Instruments; PartNumber: DDC112YK/250; # Input Channels: 2; Analog Voltage AV/DD(Max)(V): 5.25; Analog Voltage AV/DD(Min)(V): 4.75; Architecture: Delta-Sigma; Resolution(Bits): 20; Sample Rate (max)(SPS): 3k; SubFamily: Current Input ADC; DatasheetVersion: SBAS085B; PackageVersion: 4203540/A, 11/2001; PackageReference: PJT32; PackageDescription: 32-Pin Plastic Quad Flatpack, Body 7 x 7 mm, Pitch 0.8 mm; Supplier 1: Digi-Key; Supplier Part Number 1: ADS774JU/1K-ND; Supplier 2: Mouser; Supplier Part Number 2: 595-ADS774JU/1K; Digital Supply(Max)(V): 5.25; Digital Supply(Min)(V): 4.75; Eco-Plan: Green (RoHS & no Sb/Br); Mounting Technology: Surface Mount; Code_JEDEC: MS-026; ComponentLink1Description: Manufacturer URL; ComponentLink1URL: http://www.ti.com/; ComponentLink2Description: Datasheet; ComponentLink2URL: http://www.ti.com/general/docs/lit/getliterature.tsp?genericPartNumber=DDC112&fileType=pdf; ComponentLink3Description: Package Specification; ComponentLink3URL: http://www.ti.com/litv/pdf/mpqf112
footprint TI-PJT32_N (QFP, 32-Leads, Body 7x7mm, Pitch 0.8mm, IPC Medium Density)
footprint TI-PJT32_L (QFP, 32-Leads, Body 7x7mm, Pitch 0.8mm, IPC High Density)
footprint TI-PJT32_M (QFP, 32-Leads, Body 7x7mm, Pitch 0.8mm, IPC Low Density)
part A pins: 1 CAP1A "External Capacitor for Integrator 1A", 2 CAP1A "External Capacitor for Integrator 1A", 3 AVDD (power) "Analog Supply, +5V Nominal", 6 TEST (in) "Test Control Input. When HIGH, a test charge is applied to the A or B integrators on the next CONV transition.", 7 CONV (in) "Controls which side of the integrator is connected to input. In continuous mode; CONV HIGH side A is integrating, CONV LOW side B is integrating CONV must be synchronized with CLK (see text).", 8 CLK (in) "System Clock Input, 10MHz Nominal", 9 DCLK (in) "Serial Data Clock Input. This input operates the serial I/O shift register.", 10 ~{DXMIT} (in) "Serial Data Transmit Enable Input. When LOW, this input enables the internal serial shift register.", 11 DIN (in) "Serial Digital Input. Used to cascade multiple DDC112s.", 12 DVDD (power) "Digital Supply, +5V Nominal", 13 DGND (power) "Digital Ground", 14 DOUT (hiz) "Serial Data Output, Hi-Z when D\X\M\I\T\ is HIGH", 15 ~{DVALID} (out) "Data Valid Output. A LOW value indicates valid data is available in the serial I/O register.", 16 RANGE0 (in) "Range Control Input 0 (least significant bit)", 17 RANGE1 (in) "Range Control Input 1", 18 RANGE2 (in) "Range Control Input 2. (most significant bit)", 21 AGND (power) "Analog Ground", 22 VREF (in) "External Reference Input, +4.096V Nominal", 23 CAP2A "External Capacitor for Integrator 2A", 24 CAP2A "External Capacitor for Integrator 2A", 25 CAP2B "External Capacitor for Integrator 2B", 26 CAP2B "External Capacitor for Integrator 2B", 27 AGND (power) "Analog Ground", 28 IN2 (in) "Input 2: analog input for Integrators 2A and 2B. The integrator that is active is set by the CONV input.", 29 IN1 (in) "Input 1: analog input for Integrators 1A and 1B. The integrator that is active is set by the CONV input.", 30 AGND (power) "Analog Ground", 31 CAP1B "External Capacitor for Integrator 1B", 32 CAP1B "External Capacitor for Integrator 1B"
part B pins: 4 NC "No Connection", 5 NC "No Connection", 19 NC "No Connection", 20 NC "No Connection"